# EAGLE library part FDG8842CZ (library NR_Transistor)
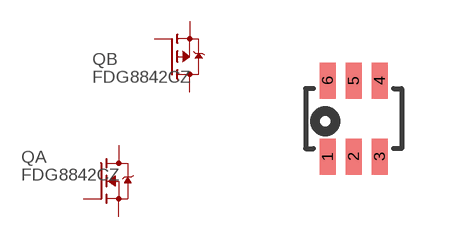
[diagram p0: symbol with the pads of SC-70-6; footprint SC-70-6]

Designator prefix Q; gates A=N-MOSFET B=P-MOSFET

## FDG8842CZ  [SC-70-6]
1  A:S  pas
2  A:G  pas
3  B:D  pas
4  B:S  pas
5  B:G  pas
6  A:D  pas

## Footprint SC-70-6 (pad centres in mm)
smd 0.4 x 0.9: 1 -0.65,-0.95; 2 0,-0.95; 3 0.65,-0.95; 4 0.65,0.95; 5 0,0.95; 6 -0.65,0.95